# Altium footprint library WENSHIDU.PcbLib: 18 footprints (part 1 of 2)
Each footprint in its own frame and in the unit in brackets; x right, y up, seen from the top. Pads: shape width x height; smd on the part's side, far side on the other; paste and mask are expansions set on the pad; w line width, h text height; cw(c..) or ccw(c..) is an arc to the next point about the centre after c.
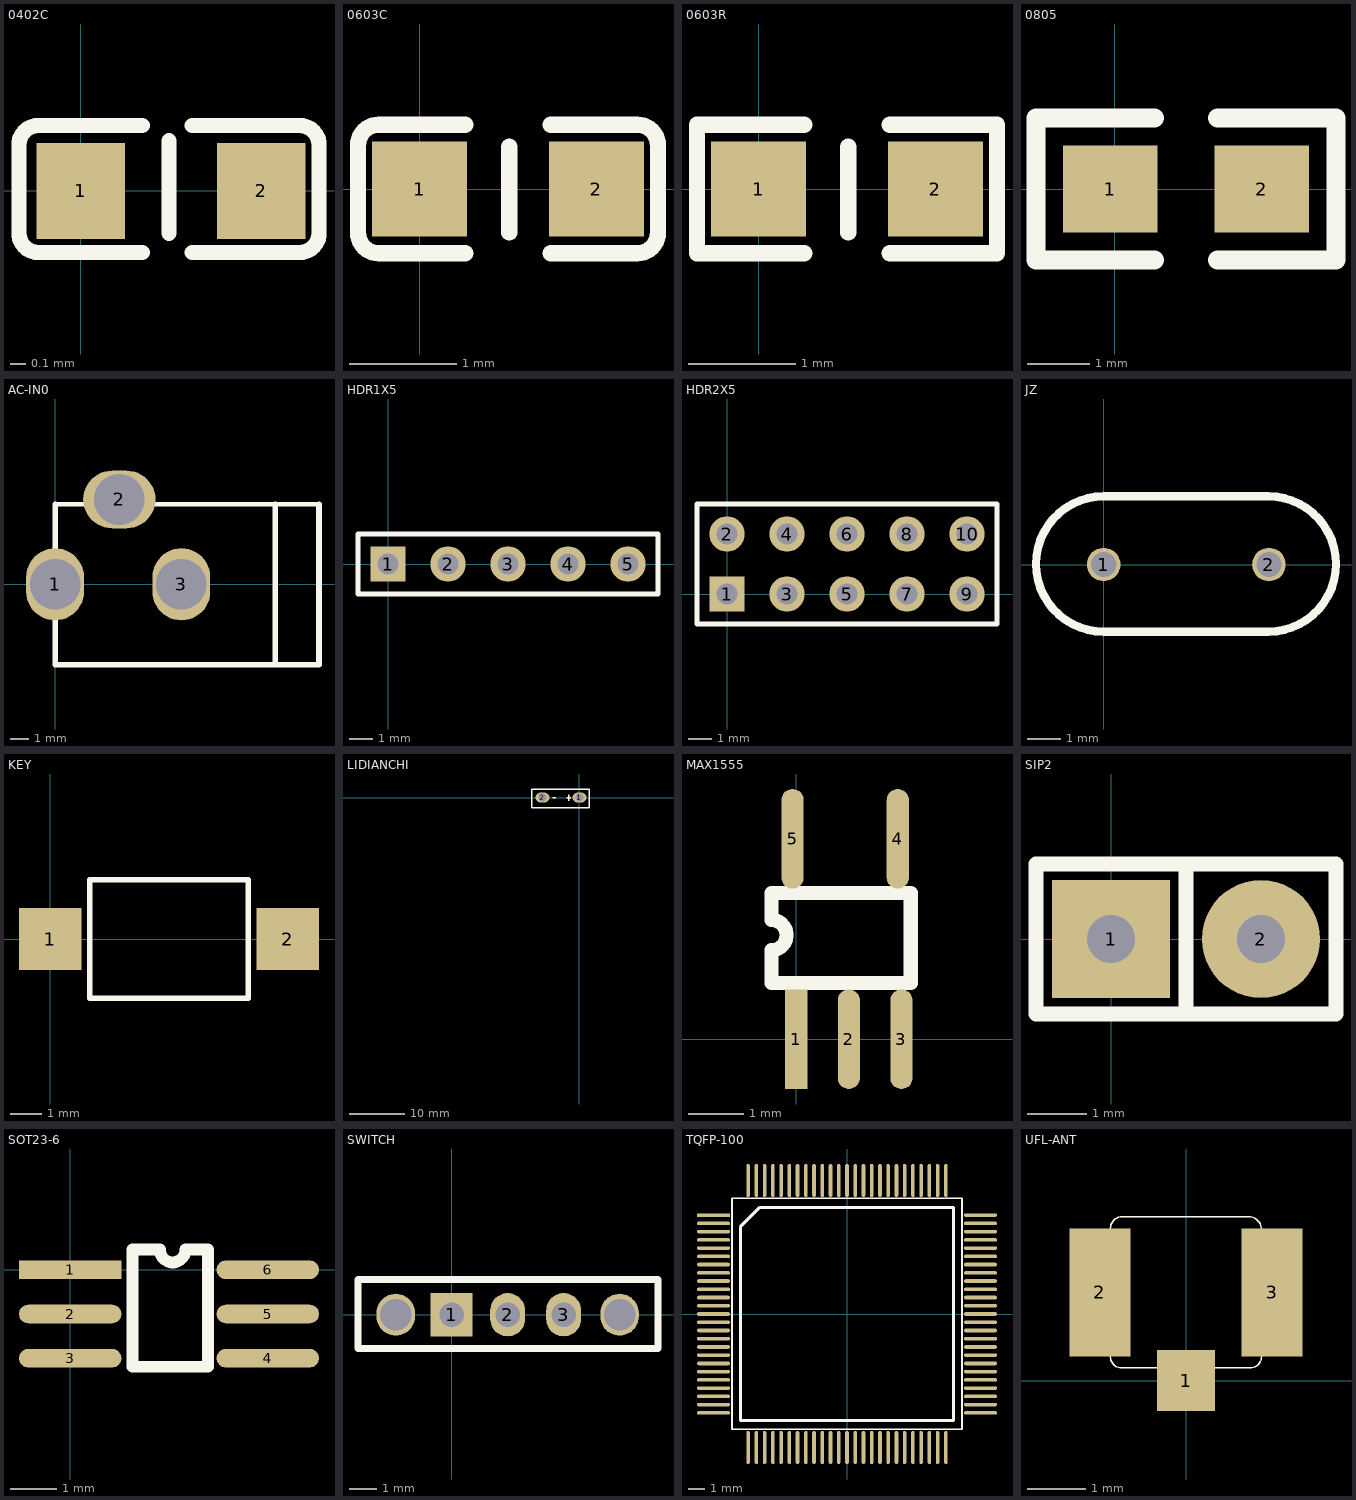
[diagram p0: the footprints below, top view; thin cyan lines are the x and y axes]

## 0402C [mil]
pads (2):
  rect 23x25 smd: 1(0,0) 2(47,0)
Top Overlay:
  lines w4: 16,-16 -11,-16 cw(c-11,-11) -16,-11 -16,12 cw(c-11,12) -11,17 16,17 ; 23,-11 23,13 ; 29,-16 57,-16 ccw(c57,-11) 62,-11 62,12 ccw(c57,12) 57,17 29,17

## 0603C [mil]
pads (2):
  rect 35x35 smd: 1(0,0) 2(65,0)
Top Overlay:
  lines w6: 16.75,-23.62 -15,-23.62 cw(c-15,-16) -22.62,-16 -22.62,16 cw(c-15,16) -15,23.62 16.75,23.62 ; 33,-16 33,15.5 ; 48.25,-23.62 80,-23.62 ccw(c80,-16) 87.62,-16 87.62,16 ccw(c80,16) 80,23.62 48.25,23.62

## 0603R [mil]
pads (2):
  rect 35x35 smd: 1(0,0) 2(65,0)
Top Overlay:
  lines w6: 16.75,-23.62 -22.62,-23.62 -22.62,23.62 16.75,23.62 ; 33,-16 33,15.5 ; 48.24,-23.62 87.61,-23.62 87.61,23.62 48.24,23.62

## 0805 [mil]
pads (2):
  rect 60x55 smd: 1(-3,0) 2(93,0)
Top Overlay:
  lines w12: 25,-45 -50,-45 -50,45 25,45 ; 65,-45 140,-45 140,45 65,45

## AC-IN0 [mm]
pads (3):
  oval 3.2x4 hole 2.8: 1(0,0) 3(6.985,0)
  oval 4x3.2 hole 2.8: 2(3.556,4.699)
Top Overlay:
  lines w0.254: 0,4.445 5.461,4.445 14.605,4.445
  lines w0.305: 0,4.445 0,-4.445 14.605,-4.445 14.605,4.445 ; 12.192,-4.445 12.192,4.445

## HDR1X5 [mm] "Connector; Header; 5 Position"
pads (5):
  rect 1.5x1.5 hole 0.9: 1(0,0)
  round 1.5 hole 0.9: 2(2.54,0) 3(5.08,0) 4(7.62,0) 5(10.16,0)
Top Overlay:
  lines w0.2: -1.27,-1.27 -1.27,1.27 11.43,1.27 11.43,-1.27 -1.27,-1.27

## HDR2X5 [mm] "Connector; Header; 5x2 Position"
pads (10):
  rect 1.5x1.5 hole 0.9: 1(0,0)
  round 1.5 hole 0.9: 2(0,2.54) 3(2.54,0) 4(2.54,2.54) 5(5.08,0) 6(5.08,2.54) 7(7.62,0) 8(7.62,2.54) 9(10.16,0) 10(10.16,2.54)
Top Overlay:
  lines w0.2: -1.27,-1.27 -1.27,3.81 11.43,3.81 11.43,-1.27 -1.27,-1.27

## JZ [mil]
pads (2):
  round 40 hole 30: 1(0,0) 2(196.85,0)
Top Overlay:
  lines w10: 0,-80 cw(c0,0.62) 0,81.25 196.1,81.25 cw(c196.1,0.62) 196.1,-80 0,-80

## KEY [mm]
pads (2):
  rect 2x2 smd: 1(0,0) 2(7.62,0)
Top Overlay:
  lines w0.178: 1.27,-1.905 6.35,-1.905 6.35,1.905 1.27,1.905 1.27,-1.905

## LIDIANCHI [mil]
pads (2):
  oval 100x70 hole 60: 1(0,0) 2(-265,0)
Top Overlay:
  lines w10: -193,0 -169,0 ; -92,0 -61,0 ; -76,-23 -76,21 ; 69,59 69,-74 -342,-74 -342,61 69,61
Bottom Overlay:
  lines w10: 69,0 157.48,0 157.48,-2086.61 -1181.1,-2086.61 -1181.1,0 -342,0 ; -342,0 -342,60.9 68.3,60.9 69,60.2 69,-73.8 68.8,-74 -340.8,-74 -342,-72.8 -342,0

## MAX1555 [mm]
pads (5):
  rect 0.4x1.8 smd: 1(0,0)
  oval 0.4x1.8 smd: 2(0.95,0) 3(1.9,0) 4(1.834,3.617) 5(-0.066,3.617)
Top Overlay:
  lines w0.254: -0.447,1.016 2.068,1.016 2.068,2.642 -0.447,2.642 -0.447,2.153 cw(c-0.447,1.88) -0.447,1.606 -0.447,1.016

## SIP2 [mm]
pads (2):
  rect 2x2 hole 0.813: 1(0,0)
  round 2 hole 0.813: 2(2.54,0)
Top Overlay:
  lines w0.254: 1.27,-1.27 1.27,1.27 ; -1.27,-1.27 3.81,-1.27 3.81,1.27 -1.27,1.27 -1.27,-1.27

## SOT23-6 [mm]
pads (6):
  rect 2.2x0.4 smd: 1(0,0)
  oval 2.2x0.4 smd: 2(0,-0.95) 3(0,-1.9) 4(4.242,-1.9) 5(4.242,-0.95) 6(4.242,0)
Top Overlay:
  lines w0.254: 1.336,-2.083 2.962,-2.083 2.962,0.432 2.473,0.432 cw(c2.2,0.432) 1.926,0.432 1.336,0.432 1.336,-2.083

## SWITCH [mil]
pads (5):
  rect 60x62 hole 35: 1(0,0)
  oval 50x62 hole 35: 2(80,0) 3(160,0)
  oval 55x60 / inner round 0 / far side round 0 hole 45: ""(-80,0) ""(240,0)
Top Overlay:
  lines w10: -134,-48 -134,50 295,50 295,-48 -134,-48

## TQFP-100 [mm]
pads (100):
  rect 2x0.22 smd: 1(-8.1,5.994)
  oval 2x0.22 smd: 2(-8.1,5.5) 3(-8.1,5) 4(-8.1,4.5) 5(-8.1,4) 6(-8.1,3.5) 7(-8.1,3) 8(-8.1,2.5) 9(-8.1,2) 10(-8.1,1.5) 11(-8.1,1) 12(-8.1,0.5) 13(-8.1,0) 14(-8.1,-0.5) 15(-8.1,-1) 16(-8.1,-1.5) 17(-8.1,-2) 18(-8.1,-2.5) 19(-8.1,-3) 20(-8.1,-3.5) 21(-8.1,-4) 22(-8.1,-4.5) 23(-8.1,-5) 24(-8.1,-5.5) 25(-8.1,-6) 51(8.1,-6) 52(8.1,-5.5) 53(8.1,-5) 54(8.1,-4.5) 55(8.1,-4) 56(8.1,-3.5) 57(8.1,-3) 58(8.1,-2.5) 59(8.1,-2) 60(8.1,-1.5) 61(8.1,-1) 62(8.1,-0.5) 63(8.1,0) 64(8.1,0.5) 65(8.1,1) 66(8.1,1.5) 67(8.1,2) 68(8.1,2.5) 69(8.1,3) 70(8.1,3.5) 71(8.1,4) 72(8.1,4.5) 73(8.1,5) 74(8.1,5.5) 75(8.1,6)
  oval 0.22x2 smd: 26(-6,-8.1) 27(-5.5,-8.1) 28(-5,-8.1) 29(-4.5,-8.1) 30(-4,-8.1) 31(-3.5,-8.1) 32(-3,-8.1) 33(-2.5,-8.1) 34(-2,-8.1) 35(-1.5,-8.1) 36(-1,-8.1) 37(-0.5,-8.1) 38(0,-8.1) 39(0.5,-8.1) 40(1,-8.1) 41(1.5,-8.1) 42(2,-8.1) 43(2.5,-8.1) 44(3,-8.1) 45(3.5,-8.1) 46(4,-8.1) 47(4.5,-8.1) 48(5,-8.1) 49(5.5,-8.1) 50(6,-8.1) 76(6,8.1) 77(5.5,8.1) 78(5,8.1) 79(4.5,8.1) 80(4,8.1) 81(3.5,8.1) 82(3,8.1) 83(2.5,8.1) 84(2,8.1) 85(1.5,8.1) 86(1,8.1) 87(0.5,8.1) 88(0,8.1) 89(-0.5,8.1) 90(-1,8.1) 91(-1.5,8.1) 92(-2,8.1) 93(-2.5,8.1) 94(-3,8.1) 95(-3.5,8.1) 96(-4,8.1) 97(-4.5,8.1) 98(-5,8.1) 99(-5.5,8.1) 100(-6,8.1)
Top Overlay:
  lines w0.102: -6.975,-7 -6.975,7.025 6.975,7.025 6.975,-7 -6.975,-7
  lines w0.2: -6.465,-6.465 6.465,-6.465 6.465,6.465 -5.28,6.465 -6.465,5.28 -6.465,-6.465

## UFL-ANT [mm]
pads (3):
  rect 1x1.05 smd: 1(0,0)
  rect 1.05x2.2 smd: 2(-1.48,1.52) 3(1.48,1.52)
Top Overlay:
  lines w0.025: -1.3,0.41 ccw(c-1.11,0.41) -1.11,0.22 1.1,0.22 ccw(c1.1,0.42) 1.3,0.42 1.3,2.6 ccw(c1.08,2.6) 1.08,2.82 0,2.82 -1.1,2.82 ccw(c-1.1,2.62) -1.3,2.62 -1.3,0.41